# Altium footprint library vitech_lib.PcbLib: 15 footprints
Each footprint in its own frame and in the unit in brackets; x right, y up, seen from the top. Pads: shape width x height; smd on the part's side, far side on the other; paste and mask are expansions set on the pad; w line width, h text height; cw(c..) or ccw(c..) is an arc to the next point about the centre after c.
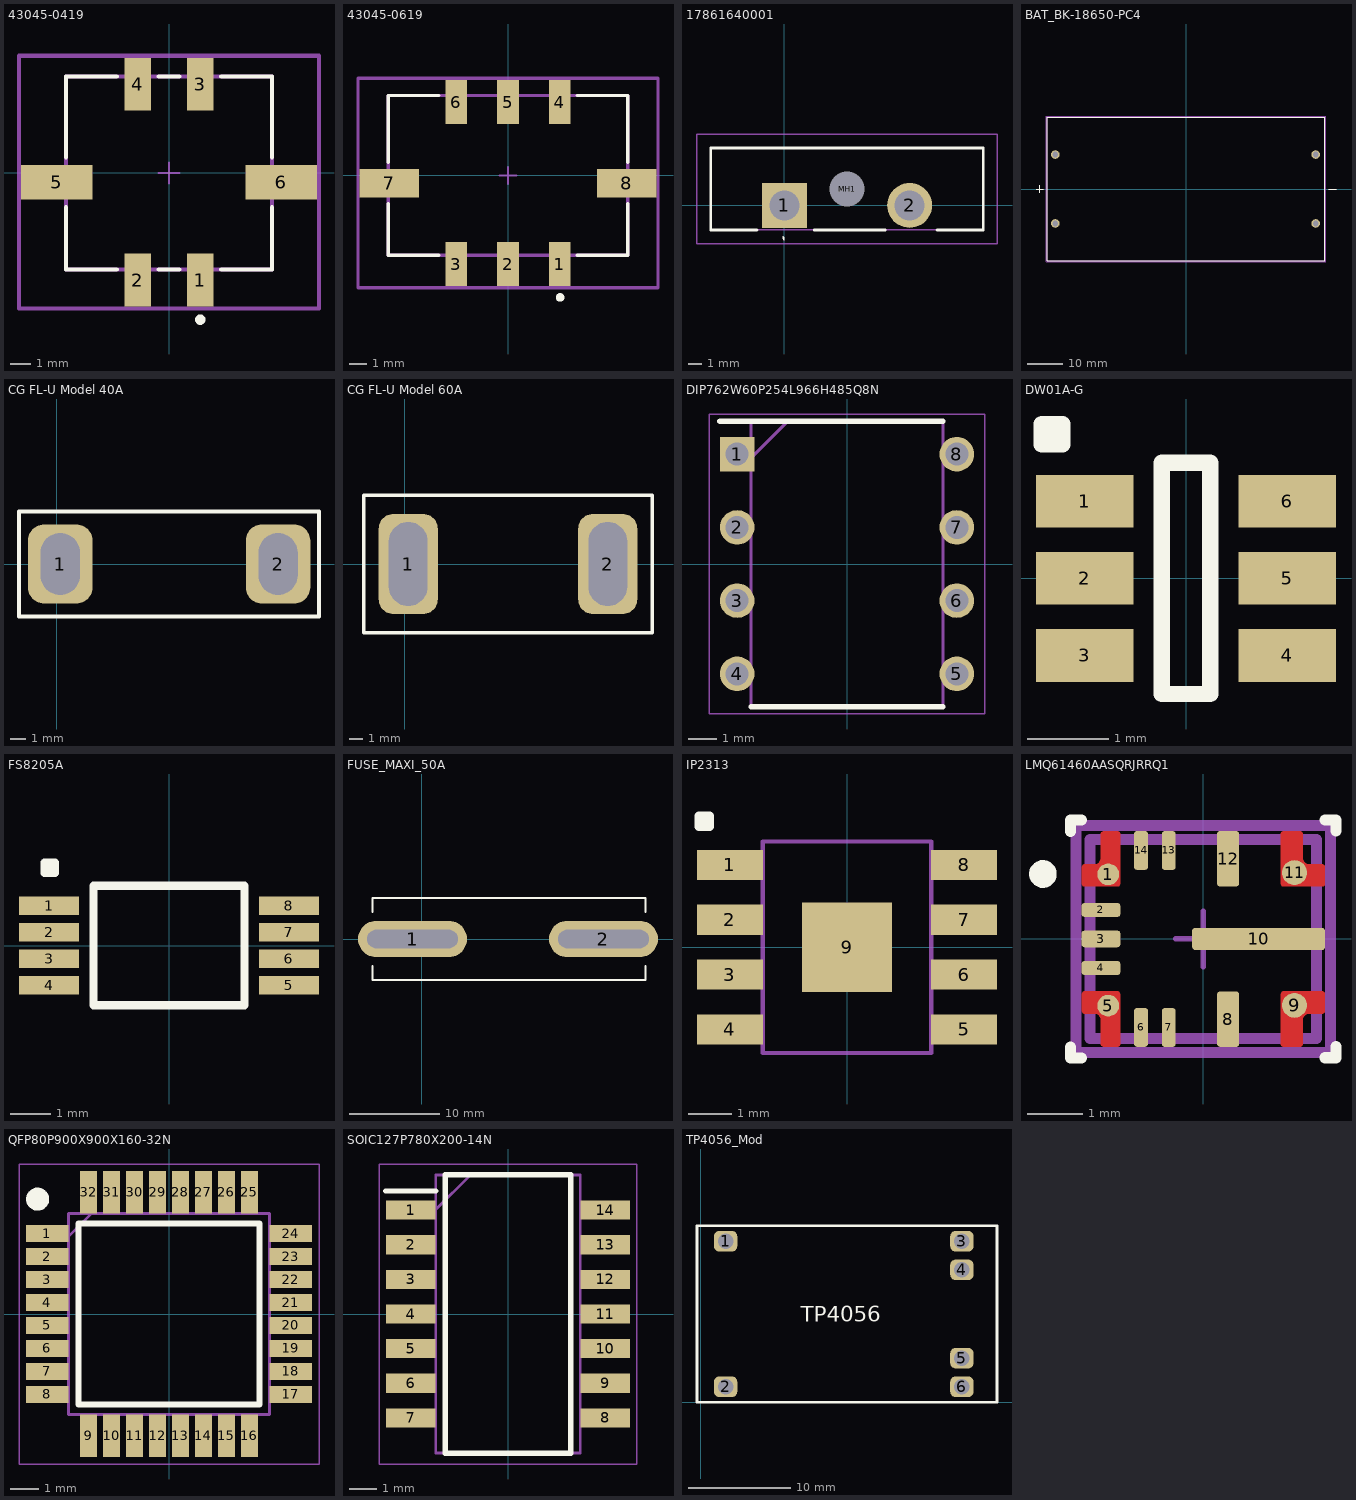
[diagram p0: the footprints below, top view; thin cyan lines are the x and y axes]

## 43045-0419 [mm]
pads (6):
  rect 1.27x2.54 smd paste+0 mask+0: 1(1.5,-5.145) 2(-1.5,-5.145) 3(1.5,4.255) 4(-1.5,4.255)
  rect 3.43x1.65 smd paste+0 mask+0: 5(-5.385,-0.445) 6(5.385,-0.445)
Top Overlay:
  circle w0.25: c1.5,-7.045 r0.125
  lines w0.2: -4.95,-1.645 -4.95,-4.635 -2.51,-4.635 ; -4.95,0.755 -4.95,4.635 -2.51,4.635 ; -0.49,-4.635 0.49,-4.635 ; -0.49,4.635 0.49,4.635 ; 2.51,-4.635 4.95,-4.635 4.95,-1.645 ; 2.51,4.635 4.95,4.635 4.95,0.755
Top 3D Body:
  lines w0.2: -4.95,-4.635 4.95,-4.635 4.95,4.635 -4.95,4.635 -4.95,-4.635
Board:
  lines w0.2: -7.2,-6.515 7.2,-6.515 7.2,5.625 -7.2,5.625 -7.2,-6.515
Top Assembly:
  lines w0.2: -7.2,-6.515 7.2,-6.515 7.2,5.625 -7.2,5.625 -7.2,-6.515
  text ".Designator" at 2.51,6.188 h1
Top Component Center:
  lines w0.1: -0.5,0 0.5,0 ; 0,-0.5 0,0.5
3D body "Conn_Molex_430450419_eec.STEP": height 0.25, standoff 0, extent -7.2,-6.515 7.2,5.625

## 43045-0619 [mm]
pads (8):
  rect 1.27x2.54 smd paste+0 mask+0: 1(3,-5.145) 2(0,-5.145) 3(-3,-5.145) 4(3,4.255) 5(0,4.255) 6(-3,4.255)
  rect 3.43x1.65 smd paste+0 mask+0: 7(-6.885,-0.445) 8(6.885,-0.445)
Top Overlay:
  circle w0.25: c3.025,-7.075 r0.125
  lines w0.2: -6.95,-1.645 -6.95,-4.635 -4.01,-4.635 ; -6.95,0.755 -6.95,4.635 -4.01,4.635 ; 4.01,-4.635 6.95,-4.635 6.95,-1.645 ; 4.01,4.635 6.95,4.635 6.95,0.755
Top 3D Body:
  lines w0.2: -6.95,-4.635 -6.95,4.635 6.95,4.635 6.95,-4.635 -6.95,-4.635
Board:
  lines w0.2: -8.7,-6.515 -8.7,5.625 8.7,5.625 8.7,-6.515 -8.7,-6.515
Top Assembly:
  lines w0.2: -8.7,-6.515 -8.7,5.625 8.7,5.625 8.7,-6.515 -8.7,-6.515
  text ".Designator" at 4.01,6.188 h1
Top Component Center:
  lines w0.1: -0.5,0 0.5,0 ; 0,-0.5 0,0.5
3D body "Conn_Molex_43045-0618_eec.STEP": height 0.25, standoff 0, extent -8.7,-6.515 8.7,5.625

## 17861640001 [mm]
pads (3):
  rect 3.3x3.3 hole 2.2: 1(0,0)
  round 3.3 hole 2.2: 2(9.2,0)
  round 1.3 hole 2.6 unplated: MH1(4.6,1.2)
Top Overlay:
  lines w0.1: -0.1,-2.4 ccw(c-0.1,-2.35) -0.1,-2.3 ; 0,-2.513 cw(c0,-2.463) 0,-2.413
  lines w0.2: -2,-1.8 -5.4,-1.8 -5.4,4.2 14.6,4.2 14.6,-1.8 11.2,-1.8 ; 2.2,-1.8 7.4,-1.8
Mechanical 13:
  lines w0.1: -5.4,-1.8 14.6,-1.8 14.6,4.2 -5.4,4.2 -5.4,-1.8
Mechanical 15:
  lines w0.1: -6.4,-2.8 15.6,-2.8 15.6,5.2 -6.4,5.2 -6.4,-2.8
3D body "178.6164.0000.step.SLDPRT": height 17.65, standoff -3.85, extent -5.515,-1.783 14.635,4.217

## BAT_BK-18650-PC4 [mm]
pads (4):
  round 2.4 hole 1.6: 1+(-36.6,9.65) 1-(36.3,9.65) 2+(-36.6,-9.65) 2-(36.3,-9.65)
Top Overlay:
  lines w0.127: -42,0 -40,0 ; -41,-1 -41,1 ; 40,0 42,0 ; -38.85,-20.105 38.85,-20.105 38.85,20.105 -38.85,20.105 -38.85,-20.105
Mechanical 13:
  lines w0.127: -42,0 -40,0 ; -41,-1 -41,1 ; 40,0 42,0 ; -38.85,-20.105 38.85,-20.105 38.85,20.105 -38.85,20.105 -38.85,-20.105
Mechanical 15:
  lines w0.05: -39.1,-20.355 39.1,-20.355 39.1,20.355 -39.1,20.355 -39.1,-20.355
3D body "BK-18650-PC4--3DModel-STEP-56544.STEP": height 22.5, standoff -2.24, extent -38.862,-20.144 38.838,20.066

## CG FL-U Model 40A [mm]
pads (2):
  rrect50% 4.3x5.3 hole 2.6 slot 4.1 at 90 deg: 1(0.25,0) 2(14.768,0)
Top Overlay:
  lines w0.254: -2.5,-3.5 -2.5,3.5 17.5,3.5 17.5,-3.5 -2.5,-3.5
3D body "CG FL-U Model 40A.STEP": height 15.8, standoff -2.2, extent -0.701,-3 15.701,3

## CG FL-U Model 60A [mm]
pads (2):
  rrect50% 4.3x7.3 hole 2.8 slot 6.1 at 90 deg: 1(0.25,0) 2(14.75,0)
Top Overlay:
  lines w0.254: -3,-5 -3,5 -2,5 17,5 18,5 18,-5 -3,-5
3D body "CG FL-U Model 60A.STEP": height 2.2, standoff -15.8, extent -0.701,-4.5 15.701,4.5

## DIP762W60P254L966H485Q8N [mm]
pads (8):
  rect 1.2x1.2 hole 0.8: 1(-3.81,3.81)
  round 1.2 hole 0.8: 2(-3.81,1.27) 3(-3.81,-1.27) 4(-3.81,-3.81) 5(3.81,-3.81) 6(3.81,-1.27) 7(3.81,1.27) 8(3.81,3.81)
Top Overlay:
  lines w0.2: -4.41,4.955 3.325,4.955 ; -3.325,-4.955 3.325,-4.955
Mechanical 13:
  lines w0.1: -3.325,3.685 -2.055,4.955 ; -3.325,-4.955 -3.325,4.955 3.325,4.955 3.325,-4.955 -3.325,-4.955
Mechanical 15:
  lines w0.05: -4.785,-5.205 -4.785,5.205 4.785,5.205 4.785,-5.205 -4.785,-5.205
3D body "TLP250_F_.stp": height 4.85, standoff -3.5, extent -3.96,-4.83 3.96,4.83

## DW01A-G [mm]
pads (6):
  rect 1.2x0.65 smd: 1(-1.25,0.95) 2(-1.25,0) 3(-1.25,-0.95) 4(1.25,-0.95) 5(1.25,0) 6(1.25,0.95)
Top Overlay:
  lines w0.2: -1.778,1.905 -1.524,1.905 -1.524,1.651 ; -1.778,1.905 -1.524,1.651 ; -1.778,1.905 -1.778,1.651 -1.524,1.651 ; -1.778,1.905 -1.524,1.651 ; -0.3,-1.425 0.3,-1.425 0.3,1.425 -0.3,1.425 -0.3,-1.425
3D body "DW01A-G.stp": height 1.35, standoff 0, extent -1.4,-1.425 1.4,1.425

## FS8205A [mm] "Dual N-Channel Enahncement Mode Power MOSFET"
pads (8):
  rect 1.475x0.45 smd: 1(-2.938,0.975) 2(-2.938,0.325) 3(-2.938,-0.325) 4(-2.938,-0.975) 5(2.938,-0.975) 6(2.938,-0.325) 7(2.938,0.325) 8(2.938,0.975)
Top Overlay:
  lines w0.2: -3.048,2.032 -2.794,2.032 -2.794,1.778 ; -3.048,2.032 -2.794,1.778 ; -3.048,2.032 -3.048,1.778 -2.794,1.778 ; -3.048,2.032 -2.794,1.778 ; -1.85,-1.465 -1.85,1.465 1.85,1.465 1.85,-1.465 -1.85,-1.465
3D body "FS8205A.stp": height 1.2, standoff 0, extent -3.327,-1.465 3.073,1.465

## FUSE_MAXI_50A [mm]
pads (2):
  oval 12x4 hole 2 slot 10 at 0 deg: 1(-1,0) 2(20,0)
Top Overlay:
  lines w0.254: -5.414,-3 -5.414,-4.5 -5.384,-4.5 24.616,-4.5 24.616,-3 ; -5.414,3 -5.414,4.5 -5.384,4.5 24.616,4.5 24.616,3
3D body "50A MAXI FUSE, RED.STEP": height 28.06, standoff -6.04, extent -5.134,-4.5 24.366,4.5

## IP2313 [mm] "ESOP-8L DC-DC Converters RoHS"
pads (9):
  rect 1.525x0.7 smd: 1(-2.712,1.905) 2(-2.712,0.635) 3(-2.712,-0.635) 4(-2.712,-1.905) 5(2.712,-1.905) 6(2.712,-0.635) 7(2.712,0.635) 8(2.712,1.905)
  rect 2.083x2.083 smd: 9(0,0)
Top Overlay:
  lines w0.2: -3.429,3.048 -3.175,2.794 ; -3.429,3.048 -3.429,2.794 -3.175,2.794 ; -3.429,3.048 -3.175,3.048 -3.175,2.794 ; -3.429,3.048 -3.175,2.794
Mechanical 15:
  lines w0.1: -1.95,-2.45 1.95,-2.45 1.95,2.45 -1.95,2.45 -1.95,-2.45
3D body "IP2312.stp": height 1.65, standoff 0, extent -3.127,-2.45 2.873,2.45

## LMQ61460AASQRJRRQ1 [mm]
pads (14):
  round 0.394 smd paste-1000 mask+0: 1(-1.719,1.169) 5(-1.719,-1.206)
  rrect40% 0.7x0.25 smd paste+0 mask+0: 2(-1.85,0.525) 4(-1.85,-0.525)
  rrect33% 0.7x0.3 smd paste+0 mask+0: 3(-1.85,0)
  rrect40% 0.25x0.7 smd paste+0 mask+0: 6(-1.125,-1.6) 7(-0.625,-1.6) 13(-0.625,1.6) 14(-1.125,1.6)
  rrect25% 0.4x1 smd paste+0 mask+0: 8(0.45,-1.45) 12(0.45,1.45)
  round 0.45 smd paste-1000 mask+0: 9(1.65,-1.2) 11(1.65,1.2)
  rrect25% 2.4x0.4 smd paste-1000 mask+0: 10(1,0)
Top Layer:
  region: -1.8,1.95 -1.55,1.95 -1.54,1.95 -1.522,1.942 -1.508,1.928 -1.5,1.91 -1.5,1.9 -1.5,1 -1.5,0.99 -1.508,0.972 -1.522,0.958 -1.54,0.95 -1.55,0.95 -2.15,0.95 -2.16,0.95 -2.178,0.958 -2.192,0.972 -2.2,0.99 -2.2,1 -2.2,1.3 -2.2,1.31 -2.192,1.328 -2.178,1.342 -2.16,1.35 -2.15,1.35 -1.97,1.35 -1.947,1.352 -1.903,1.37 -1.87,1.403 -1.852,1.447 -1.85,1.47 -1.85,1.9 -1.85,1.91 -1.842,1.928 -1.828,1.942 -1.81,1.95 -1.8,1.95
  region: -1.55,-1.95 -1.54,-1.95 -1.522,-1.942 -1.508,-1.928 -1.5,-1.91 -1.5,-1.9 -1.5,-1 -1.5,-0.99 -1.508,-0.972 -1.522,-0.958 -1.54,-0.95 -1.55,-0.95 -2.15,-0.95 -2.16,-0.95 -2.178,-0.958 -2.192,-0.972 -2.2,-0.99 -2.2,-1 -2.2,-1.3 -2.2,-1.31 -2.192,-1.328 -2.178,-1.342 -2.16,-1.35 -2.15,-1.35 -1.97,-1.35 -1.947,-1.352 -1.903,-1.37 -1.87,-1.403 -1.852,-1.447 -1.85,-1.47 -1.85,-1.9 -1.85,-1.91 -1.842,-1.928 -1.828,-1.942 -1.81,-1.95 -1.8,-1.95
  region: 1.45,1.95 1.75,1.95 1.76,1.95 1.778,1.942 1.792,1.928 1.8,1.91 1.8,1.9 1.8,1.47 1.802,1.447 1.82,1.403 1.853,1.37 1.897,1.352 1.92,1.35 2.15,1.35 2.16,1.35 2.178,1.342 2.192,1.328 2.2,1.31 2.2,1.3 2.2,1 2.2,0.99 2.192,0.972 2.178,0.958 2.16,0.95 2.15,0.95 1.45,0.95 1.44,0.95 1.422,0.958 1.408,0.972 1.4,0.99 1.4,1 1.4,1.9 1.4,1.91 1.408,1.928 1.422,1.942 1.44,1.95 1.45,1.95
  region: 1.45,-1.95 1.75,-1.95 1.76,-1.95 1.778,-1.942 1.792,-1.928 1.8,-1.91 1.8,-1.9 1.8,-1.47 1.802,-1.447 1.82,-1.403 1.853,-1.37 1.897,-1.352 1.92,-1.35 2.15,-1.35 2.16,-1.35 2.178,-1.342 2.192,-1.328 2.2,-1.31 2.2,-1.3 2.2,-1 2.2,-0.99 2.192,-0.972 2.178,-0.958 2.16,-0.95 2.15,-0.95 1.45,-0.95 1.44,-0.95 1.422,-0.958 1.408,-0.972 1.4,-0.99 1.4,-1 1.4,-1.9 1.4,-1.91 1.408,-1.928 1.422,-1.942 1.44,-1.95 1.45,-1.95
Top Overlay:
  circle w0.25: c-2.9,1.175 r0.125
  lines w0.2: -2.399,-1.95 -2.399,-2.15 -2.199,-2.15 ; -2.399,1.948 -2.399,2.148 -2.199,2.148 ; 2.2,-2.148 2.4,-2.148 2.4,-1.948 ; 2.199,2.149 2.399,2.149 2.399,1.949
Top Paste:
  drawing of 6 lines, arcs and shapes, not listed
Top 3D Body:
  lines w0.2: -2.05,-1.8 2.05,-1.8 2.05,1.8 -2.05,1.8 -2.05,-1.8
Board:
  lines w0.2: -2.3,-2.05 2.3,-2.05 2.3,2.05 -2.3,2.05 -2.3,-2.05
Top Assembly:
  lines w0.2: -2.3,-2.05 2.3,-2.05 2.3,2.05 -2.3,2.05 -2.3,-2.05
  text ".Designator" at -0.762,2.474 h1
Top Component Center:
  lines w0.1: -0.5,0 0.5,0 ; 0,-0.5 0,0.5
3D body "IC_Texas_Instruments_LM61440AANRJRR_eec.STEP": height 0.25, standoff 0, extent -2.3,-2.05 2.3,2.05

## QFP80P900X900X160-32N [mm]
pads (32):
  rect 1.475x0.6 smd: 1(-4.238,2.8) 2(-4.238,2) 3(-4.238,1.2) 4(-4.238,0.4) 5(-4.238,-0.4) 6(-4.238,-1.2) 7(-4.238,-2) 8(-4.238,-2.8) 17(4.238,-2.8) 18(4.238,-2) 19(4.238,-1.2) 20(4.238,-0.4) 21(4.238,0.4) 22(4.238,1.2) 23(4.238,2) 24(4.238,2.8)
  rect 0.6x1.475 smd: 9(-2.8,-4.238) 10(-2,-4.238) 11(-1.2,-4.238) 12(-0.4,-4.238) 13(0.4,-4.238) 14(1.2,-4.238) 15(2,-4.238) 16(2.8,-4.238) 25(2.8,4.238) 26(2,4.238) 27(1.2,4.238) 28(0.4,4.238) 29(-0.4,4.238) 30(-1.2,4.238) 31(-2,4.238) 32(-2.8,4.238)
Top Overlay:
  circle w0.4: c-4.575,4 r0.2
  lines w0.2: -3.15,-3.15 3.15,-3.15 3.15,3.15 -3.15,3.15 -3.15,-3.15
Mechanical 13:
  lines w0.1: -3.5,2.7 -2.7,3.5 ; -3.5,-3.5 3.5,-3.5 3.5,3.5 -3.5,3.5 -3.5,-3.5
Mechanical 15:
  lines w0.05: -5.225,-5.225 5.225,-5.225 5.225,5.225 -5.225,5.225 -5.225,-5.225
3D body "EG8010.stp": height 1.6, standoff 0, extent -4.5,-4.5 4.5,4.5

## SOIC127P780X200-14N [mm]
pads (14):
  rect 1.825x0.7 smd: 1(-3.562,3.81) 2(-3.562,2.54) 3(-3.562,1.27) 4(-3.562,0) 5(-3.562,-1.27) 6(-3.562,-2.54) 7(-3.562,-3.81) 8(3.562,-3.81) 9(3.562,-2.54) 10(3.562,-1.27) 11(3.562,0) 12(3.562,1.27) 13(3.562,2.54) 14(3.562,3.81)
Top Overlay:
  lines w0.2: -4.475,4.51 -2.65,4.51 ; -2.3,-5.1 2.3,-5.1 2.3,5.1 -2.3,5.1 -2.3,-5.1
Mechanical 13:
  lines w0.1: -2.65,3.83 -1.38,5.1 ; -2.65,-5.1 2.65,-5.1 2.65,5.1 -2.65,5.1 -2.65,-5.1
Mechanical 15:
  lines w0.05: -4.725,-5.5 4.725,-5.5 4.725,5.5 -4.725,5.5 -4.725,-5.5
3D body "CD4081BNSRG4.stp": height 2, standoff 0, extent -3.9,-5.1 3.9,5.1

## TP4056_Mod [mil]
pads (6):
  rrect50% 90x78.74 hole 60: 1(95,620) 2(95,60) 3(1005,620) 4(1005,510) 5(1005,170) 6(1005,60)
Top Overlay:
  lines w10: -15,0 1140,0 1140,680 -15,680 -15,0
  text "TP4056" at 385,310 h60
3D body "TP4056_Charging_Module_Type_C.step": height 174.99, standoff 12, extent -13.54,-2.52 1140,682.52